# Altium footprint library OM15057-1_I-F2832-C_M06_PCB.PcbLib: 8 footprints
Each footprint in its own frame and in the unit in brackets; x right, y up, seen from the top. Pads: shape width x height; smd on the part's side, far side on the other; paste and mask are expansions set on the pad; w line width, h text height; cw(c..) or ccw(c..) is an arc to the next point about the centre after c.
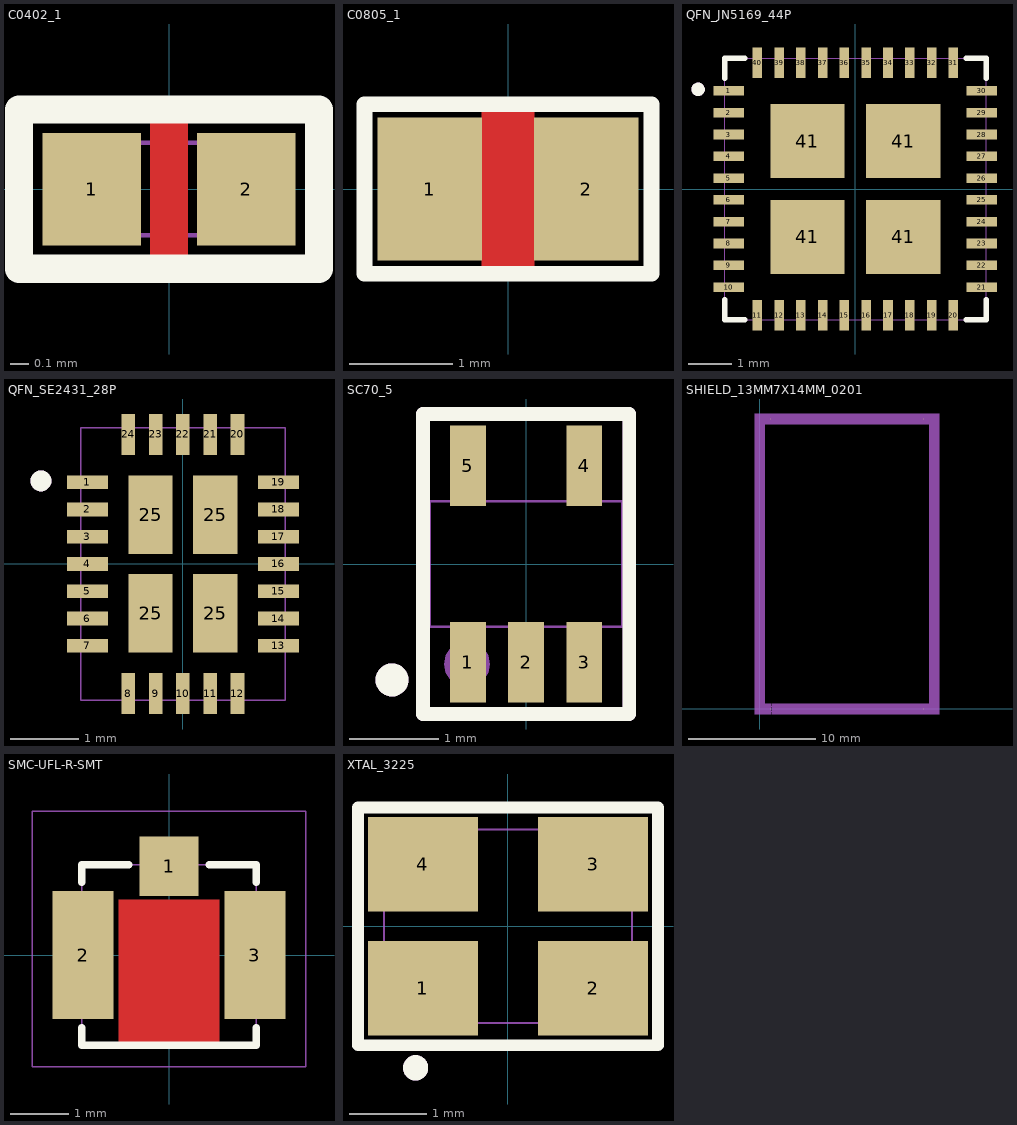
[diagram p0: the footprints below, top view; thin cyan lines are the x and y axes]

## C0402_1 [mil] "C0402"
pads (2):
  rect 21x24 smd: 1(-16.5,0) 2(16.5,0)
Top Layer:
  pour cut-out: -4,17 -4,-17 4,-17 4,17
Top Overlay:
  lines w6: -32,-17 -32,17 32,17 32,-17 -32,-17
Mechanical 22:
  text "1" at -22.5,-6 h15
  text "2" at 10.5,-6 h15
Mechanical 29:
  lines w1: -19.68,-9.84 19.69,-9.84 19.69,9.84 -19.68,9.84 -19.68,-9.84
  text ".Designator" at -12,-7 h15

## C0805_1 [mil] "C0805"
pads (2):
  rect 40x55 smd: 1(-30,0) 2(30,0)
Top Layer:
  pour cut-out: -10,-32.5 -10,32.5 10,32.5 10,-32.5
Top Overlay:
  lines w6: -55,-32.5 55,-32.5 55,32.5 -55,32.5 -55,-32.5
Mechanical 22:
  text "2" at 23,-10 h25
  text "1" at -37,-10 h25
Mechanical 29:
  lines w1: -39.37,-24.61 -39.37,24.61 39.37,24.61 39.37,-24.61 -39.37,-24.61
  text ".Designator" at -15,-12 h25

## QFN_JN5169_44P [mm] "QFN_JN5169_44P"
pads (44):
  rect 0.7x0.22 smd: 1(-2.9,2.25) 2(-2.9,1.75) 3(-2.9,1.25) 4(-2.9,0.75) 5(-2.9,0.25) 6(-2.9,-0.25) 7(-2.9,-0.75) 8(-2.9,-1.25) 9(-2.9,-1.75) 10(-2.9,-2.25) 21(2.9,-2.25) 22(2.9,-1.75) 23(2.9,-1.25) 24(2.9,-0.75) 25(2.9,-0.25) 26(2.9,0.25) 27(2.9,0.75) 28(2.9,1.25) 29(2.9,1.75) 30(2.9,2.25)
  rect 0.22x0.7 smd: 11(-2.25,-2.9) 12(-1.75,-2.9) 13(-1.25,-2.9) 14(-0.75,-2.9) 15(-0.25,-2.9) 16(0.25,-2.9) 17(0.75,-2.9) 18(1.25,-2.9) 19(1.75,-2.9) 20(2.25,-2.9) 31(2.25,2.9) 32(1.75,2.9) 33(1.25,2.9) 34(0.75,2.9) 35(0.25,2.9) 36(-0.25,2.9) 37(-0.75,2.9) 38(-1.25,2.9) 39(-1.75,2.9) 40(-2.25,2.9)
  rect 1.7x1.7 smd: 41(-1.1,-1.1) 41(-1.1,1.1) 41(1.1,-1.1) 41(1.1,1.1)
Top Overlay:
  circle w0.254: c-3.607,2.286 r0.025
  lines w0.127: -3,-2.54 -3,-3 -2.54,-3 ; -3,2.54 -3,3 -2.54,3 ; 2.54,-3 3,-3 3,-2.54 ; 2.54,3 3,3 3,2.54
Mechanical 22:
  text "7" at -2.579,-0.674 h0.2
  text "13" at -1.161,-2.207 h0.2
  text "12" at -1.661,-2.207 h0.2
  text "14" at -0.661,-2.207 h0.2
  text "3" at -2.579,1.326 h0.2
  text "25" at 2.957,-0.009 h0.2
  text "35" at 0.339,3.278 h0.2
  text "8" at -2.579,-1.174 h0.2
  text "6" at -2.579,-0.174 h0.2
  text "10" at -2.579,-2.014 h0.2
  text "27" at 2.957,0.991 h0.2
  text "2" at -2.579,1.826 h0.2
  text "1" at -2.579,2.326 h0.2
  text "40" at -2.161,3.278 h0.2
  text "38" at -1.161,3.278 h0.2
  text "22" at 2.957,-1.509 h0.2
  text "37" at -0.661,3.278 h0.2
  text "36" at -0.161,3.278 h0.2
  text "34" at 0.839,3.278 h0.2
  text "33" at 1.339,3.278 h0.2
  text "32" at 1.839,3.278 h0.2
  text "31" at 2.339,3.278 h0.2
  text "29" at 2.957,1.99 h0.2
  text "28" at 2.957,1.49 h0.2
  text "11" at -2.161,-2.207 h0.2
  text "26" at 2.957,0.49 h0.2
  text "19" at 1.839,-2.207 h0.2
  text "18" at 1.339,-2.207 h0.2
  text "16" at 0.339,-2.207 h0.2
  text "24" at 2.957,-0.51 h0.2
  text "23" at 2.957,-1.01 h0.2
  text "20" at 2.339,-2.207 h0.2
  text "15" at -0.161,-2.207 h0.2
  text "17" at 0.839,-2.207 h0.2
  text "9" at -2.579,-1.674 h0.2
  text "30" at 2.957,2.491 h0.2
  text "21" at 2.957,-2.01 h0.2
  text "42" at -0.82,-0.855 h0.2
  text "43" at 1.305,-0.83 h0.2
  text "44" at 1.305,1.37 h0.2
  text "41" at -0.82,1.345 h0.2
  text "39" at -1.661,3.278 h0.2
  text "4" at -2.579,0.826 h0.2
  text "5" at -2.579,0.326 h0.2
Mechanical 24:
  text "IC1" at -3.171,3.53 h0.4
Mechanical 29:
  circle w0.254: c-3.607,2.286 r0.025
  lines w0.025: -3,-3 3,-3 3,3 -3,3 -3,-3
  text ".Designator" at -2.21,-0.66 h1.78

## QFN_SE2431_28P [mm] "QFN_SE2431_28P"
pads (28):
  rect 0.6x0.2 smd: 1(-1.4,1.2) 2(-1.4,0.8) 3(-1.4,0.4) 4(-1.4,0) 5(-1.4,-0.4) 6(-1.4,-0.8) 7(-1.4,-1.2) 13(1.4,-1.2) 14(1.4,-0.8) 15(1.4,-0.4) 16(1.4,0) 17(1.4,0.4) 18(1.4,0.8) 19(1.4,1.2)
  rect 0.2x0.6 smd: 8(-0.8,-1.9) 9(-0.4,-1.9) 10(0,-1.9) 11(0.4,-1.9) 12(0.8,-1.9) 20(0.8,1.9) 21(0.4,1.9) 22(0,1.9) 23(-0.4,1.9) 24(-0.8,1.9)
  rect 0.65x1.15 smd: 25(-0.475,-0.725) 25(-0.475,0.725) 25(0.475,-0.725) 25(0.475,0.725)
Top Overlay:
  circle w0.254: c-2.083,1.219 r0.025
Mechanical 22:
  text "15" at 1.052,-0.526 h0.25
  text "23" at -0.687,1.961 h0.25
  text "6" at -1.341,-0.928 h0.25
  text "2" at -1.341,0.672 h0.25
  text "1" at -1.341,1.072 h0.25
  text "20" at 0.513,1.961 h0.25
  text "21" at 0.113,1.961 h0.25
  text "24" at -1.087,1.961 h0.25
  text "22" at -0.287,1.961 h0.25
  text "19" at 1.049,1.084 h0.25
  text "5" at -1.341,-0.528 h0.25
  text "25" at -0.661,0.625 h0.25
  text "26" at -0.661,-0.825 h0.25
  text "27" at 0.289,-0.825 h0.25
  text "28" at 0.289,0.625 h0.25
  text "12" at 0.528,-1.564 h0.25
  text "11" at 0.128,-1.564 h0.25
  text "10" at -0.272,-1.564 h0.25
  text "9" at -0.472,-1.564 h0.25
  text "14" at 1.052,-0.926 h0.25
  text "16" at 1.052,-0.126 h0.25
  text "18" at 1.049,0.684 h0.25
  text "17" at 1.052,0.274 h0.25
  text "8" at -0.872,-1.564 h0.25
  text "7" at -1.341,-1.328 h0.25
  text "4" at -1.341,-0.128 h0.25
  text "3" at -1.341,0.272 h0.25
  text "13" at 1.052,-1.326 h0.25
Mechanical 24:
  text "U3" at 1.65,1.868 h0.4
Mechanical 29:
  circle w0.254: c-2.083,1.219 r0.025
  lines w0.025: -1.5,-2 1.5,-2 1.5,2 -1.5,2 -1.5,-2
  text ".Designator" at -0.838,-0.356 h0.76

## SC70_5 [mm] "SC70_5"
pads (5):
  rect 0.4x0.9 smd: 1(-0.65,-1.1) 2(0,-1.1) 3(0.65,-1.1) 4(0.65,1.1) 5(-0.65,1.1)
Top Overlay:
  circle w0.254: c-1.499,-1.295 r0.057
  lines w0.152: -1.151,-1.676 1.151,-1.676 1.151,1.676 -1.151,1.676 -1.151,-1.676
Mechanical 10:
  pour cut-out: -0.66,-0.861 -0.758,-0.881 -0.842,-0.936 -0.897,-1.02 -0.917,-1.118 -0.897,-1.216 -0.842,-1.299 -0.758,-1.354 -0.66,-1.374 -0.562,-1.354 -0.479,-1.299 -0.424,-1.216 -0.404,-1.118 -0.424,-1.02 -0.479,-0.936 -0.562,-0.881
Mechanical 16:
  lines w0.152: -1.151,-1.676 -1.151,1.676 ; 1.151,-1.676 1.151,1.676
Mechanical 22:
  text "4" at 0.421,0.77 h0.64
  text "2" at -0.229,-1.43 h0.64
  text "1" at -0.879,-1.43 h0.64
  text "5" at -0.879,0.77 h0.64
  text "3" at 0.421,-1.43 h0.64
Mechanical 24:
  text "U4" at 1.366,-0.955 h0.4
Mechanical 25:
  text "Pitch:0.65mm" at -4.318,-4.374 h0.79
  text "pad0_9x0_4mm" at -4.343,-5.588 h0.79
Mechanical 29:
  circle w0.254: c-1.499,-1.295 r0.057
  lines w0.025: -1.075,-0.7 1.075,-0.7 1.075,0.7 -1.075,0.7 -1.075,-0.7
  text ".Designator" at -0.838,-0.533 h0.64

## SHIELD_13MM7X14MM_0201 [mil] "SHIELD_13MM7X14MM_0201"
pads (8):
  oct 1x1 smd: 1(34.45,0) 2(0,34.45) 3(541.34,34.45) 4(506.89,0) 5(0,865.44) 6(34.45,899.88) 7(506.89,899.88) 8(541.34,865.44)
Mechanical 10:
  pour cut-out: -15.75,-15.75 35.43,-15.75 35.43,15.75 15.75,15.75 15.75,884.13 525.59,884.13 525.59,15.75 39.37,15.75 39.37,-15.75 557.09,-15.75 557.09,915.63 -15.75,915.63
  lines w1.97: -7.87,-7.87 -7.87,907.76 549.21,907.76 549.21,-7.87 -7.87,-7.87 ; 7.87,7.87 7.87,892.01 533.46,892.01 533.46,7.87 7.87,7.87
Mechanical 22:
  text "6" at 34.45,880.98 h23.62
  text "8" at 541.34,846.54 h23.62
  text "4" at 506.89,-18.9 h23.62
  text "2" at 0,15.56 h23.62
  text "5" at 0,846.54 h23.62
  text "7" at 506.89,880.98 h23.62
  text "1" at 34.45,-18.9 h23.62
  text "3" at 541.34,15.56 h23.62
3D body: height 150, standoff 0, extent -15.75,-15.75 557.09,915.63

## SMC-UFL-R-SMT [mm] "SMC-UFL-R-SMT"
pads (3):
  rect 1.016x1.016 smd: 1(0,1.525)
  rect 1.05x2.2 smd: 2(-1.475,0) 3(1.475,0)
Top Layer:
  pour cut-out: -0.864,0.953 -0.864,-1.6 0.864,-1.6 0.864,0.953
Top Overlay:
  lines w0.127: -1.5,-1.245 -1.5,-1.55 1.5,-1.55 1.5,-1.245 ; -1.5,1.246 -1.5,1.55 -0.686,1.55 ; 0.686,1.55 1.5,1.55 1.5,1.246
Mechanical 16:
  lines w0.025: -2.345,-1.92 -2.345,2.47 2.345,2.47 2.345,-1.92 -2.345,-1.92
Mechanical 22:
  text "3" at 1.16,0 h0.79
  text "2" at -1.79,0 h0.79
  text "1" at -0.315,1.525 h0.79
Mechanical 24:
  text "CON1" at -0.687,2.525 h0.4
Mechanical 29:
  lines w0.025: -1.5,-1.55 -1.5,1.55 1.5,1.55 1.5,-1.55 -1.5,-1.55
  text ".Designator" at -1.092,-0.66 h1.27

## XTAL_3225 [mil] "XTAL_3225"
pads (4):
  rect 56x48 smd: 1(-43.31,-31.5) 2(43.31,-31.5) 3(43.31,31.5) 4(-43.31,31.5)
Top Overlay:
  circle w10: c-47,-72 r1.41
  lines w6: -76.31,-60.5 76.31,-60.5 76.31,60.5 -76.31,60.5 -76.31,-60.5
Mechanical 10:
  pour cut-out: -34.85,-34 -35.66,-29.93 -37.97,-26.47 -41.43,-24.16 -45.5,-23.35 -49.57,-24.16 -53.03,-26.47 -55.34,-29.93 -56.15,-34 -55.34,-38.07 -53.03,-41.53 -49.57,-43.84 -45.5,-44.65 -41.43,-43.84 -37.97,-41.53 -35.66,-38.07
Mechanical 22:
  text "3" at 38.31,21.5 h25
  text "1" at -48.31,-41.5 h25
  text "4" at -48.31,21.5 h25
  text "2" at 38.31,-41.5 h25
Mechanical 24:
  text "Y1" at -11.17,-81.38 h15.75
Mechanical 25:
  text "pitch:2.2mm" at -100,-172 h31
  text "pad56x48" at -101,-128 h31
Mechanical 29:
  circle w10: c-47,-72 r1.41
  lines w1: -62.99,-49.21 -62.99,49.21 62.99,49.21 62.99,-49.21 -62.99,-49.21
  text ".Designator" at -39,-7 h31